# Altium schematic symbol library ComponentsTSAL_schematics.SchLib: 16 symbols
Pins are listed as number, name and electrical type; pins without a type are passive.

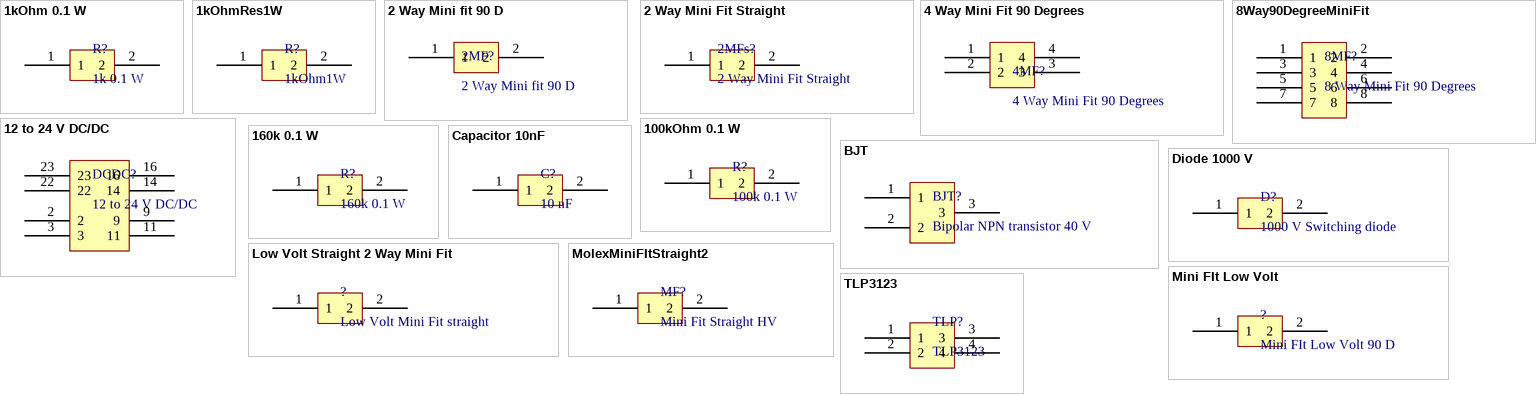
[diagram p0: symbols 1kOhm 0.1 W to TLP3123]

## 1kOhm 0.1 W
designator R?, comment 1k 0.1 W
footprint 1kOhm 0603 0.1 W (1kOhm 0603 Panasonic ERA Series 0.1 W)
pins: 1, 2

## 1kOhmRes1W
designator R?, comment 1kOhm1W
footprint 1kOhm 1W 2512 TEcon (1kOhm 1W 2512 TE con. 3520 Series)
pins: 1, 2

## 2 Way Mini fit 90 D
designator 2MF?
footprint MiniFit2way90 (MiniFit2Way90)
pins: 1, 2

## 2 Way Mini Fit Straight
designator 2MFs?
footprint Minifit2WayStraight
pins: 1, 2

## 4 Way Mini Fit 90 Degrees
designator 4MF?
footprint Minifit4Way90 (Minifit 4Way 90 degrees)
pins: 1, 2, 3, 4

## 8Way90DegreeMiniFit
designator 8MF?, comment 8 Way Mini Fit 90 Degrees
footprint MiniFit8Way90
pins: 1, 2, 3, 4, 5, 6, 7, 8

## 12 to 24 V DC/DC
designator DCDC?
footprint XPPowerJTE03Series (XPPowerJTE03Series DCDC (Unfinished, needs more pins?))
pins: 2, 3, 9, 11, 14, 16, 22, 23

## 100kOhm 0.1 W
designator R?, comment 100k 0.1 W
footprint 100kOhm 0603 0.1 W (10kOhm 0603 Panasonic ERA series (same FP as 1k) 0.1 W)
pins: 1, 2

## 160k 0.1 W
designator R?
footprint 160kOhm Panasonic 0603 0.1 W (160kOhm Panasonic 0603 ERA Series (same as 1kOhm) 0.1 W)
pins: 1, 2

## BJT
designator BJT?, comment Bipolar NPN transistor 40 V
Bipolar NPN transistor
footprint Fairchild MMBT3904 SOT23 (Fairchild MMBT3904 SOT23 NPN 0.2 A 40 V)
pins: 1, 2, 3

## Capacitor 10nF
designator C?, comment 10 nF
Capacitor 10nF
footprint Capacitor 10nF 0805
pins: 1, 2

## Diode 1000 V
designator D?, comment 1000 V Switching diode
footprint Fairchild S1M 1000 V Diode (Fairchild S1M 1000 switching diode 1 A DO214AC)
pins: 1, 2

## Low Volt Straight 2 Way Mini Fit
designator ?, comment Low Volt Mini Fit straight
footprint Low Volt Straight Molex Mini Fit
pins: 1, 2

## Mini FIt Low Volt
designator ?, comment Mini FIt Low Volt 90 D
Mini FIt Low Volt
footprint Minfit90DLowVOltage (Chip Resistor, 2-Leads, Body 2,15x1,35mm, IPC Medium Density)
pins: 1, 2

## MolexMiniFItStraight2
designator MF?, comment Mini Fit Straight HV
footprint Minifit2WayStraight
pins: 1, 2

## TLP3123
designator TLP?
footprint TLP3123 Toshiba (TLP3123 Toshiba Optocoupler)
pins: 1, 2, 3, 4